# Altium schematic symbol library port2.SchLib: 1 symbol
Pins are listed as number, name and electrical type; pins without a type are passive.

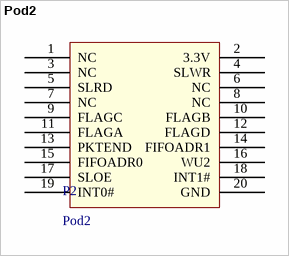
[diagram p0: symbol Pod2]

## Pod2
designator P2
footprint Pin Header 20x2
pins: 1 NC, 2 3.3V, 3 NC, 4 SLWR, 5 SLRD, 6 NC, 7 NC, 8 NC, 9 FLAGC, 10 FLAGB, 11 FLAGA, 12 FLAGD, 13 PKTEND, 14 FIFOADR1, 15 FIFOADR0, 16 WU2, 17 SLOE, 18 INT1#, 19 INT0#, 20 GND